# Altium integrated library 3362P-1-103.IntLib: 1 symbol
Pins are listed as number, name and electrical type; pins without a type are passive.

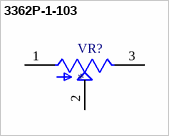
[diagram p0: symbol 3362P-1-103]

## 3362P-1-103
designator VR?
10 kOhms 0.5W, 1/2W PC Pins Through Hole Trimmer Potentiometer Cermet 1 Turn Top Adjustment; MF: Bourns; MP: 3362P-1-103; Availability: Unavailable; Check_prices: https://www.snapeda.com/parts/3362P-1-103/Bourns/view-part/1483042/?ref=eda; Package: 3116 Bourns; Price: None; SnapEDA_Link: https://www.snapeda.com/parts/3362P-1-103/Bourns/view-part/1483042/?ref=snap; Value: *
footprint TRIM_3362P-1-103
pins: 1 CCW, 2 WIPER, 3 CW